# Altium schematic symbol library ADS4229.SchLib: 1 symbol
Pins are listed as number, name and electrical type; pins without a type are passive.

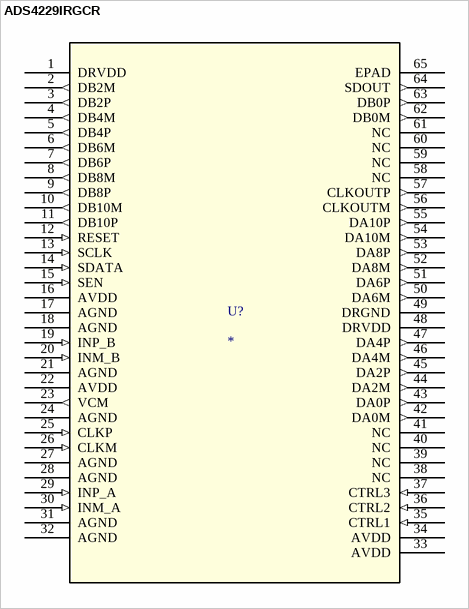
[diagram p0: symbol ADS4229IRGCR]

## ADS4229IRGCR
designator U?
12-Bit 250MSPS Dual Low Power ADC; Manufacturer: Texas Instruments; GENERIC_PART_NUMBER: ADS4229; INDUSTRY_STD_PKG_TYPE: VQFN; FAMILY_NAME: HIGH SPEED ADC (>10MSPS); PIN_COUNT: 64; PACKAGE_DESIGNATOR: RGC; Datasheet_URL: http://www.ti.com/lit/gpn/ADS4229; Copyright: Copyright (C) 2018 Accelerated Designs. All rights reserved; RefDes: RefDes; Type: DEV; ComponentLink1Description: Product Page; ComponentLink1URL: https://www.ti.com/product/ADS4229
footprint RGC64_7P4X7P4
pins: 1 DRVDD (power), 2 DB2M (out), 3 DB2P (out), 4 DB4M (out), 5 DB4P (out), 6 DB6M (out), 7 DB6P (out), 8 DB8M (out), 9 DB8P (out), 10 DB10M (out), 11 DB10P (out), 12 RESET (in), 13 SCLK (in), 14 SDATA (in), 15 SEN (in), 16 AVDD (power), 17 AGND (power), 18 AGND (power), 19 INP_B (in), 20 INM_B (in), 21 AGND (power), 22 AVDD (power), 23 VCM (out), 24 AGND (power), 25 CLKP (in), 26 CLKM (in), 27 AGND (power), 28 AGND (power), 29 INP_A (in), 30 INM_A (in), 31 AGND (power), 32 AGND (power), 33 AVDD (power), 34 AVDD (power), 35 CTRL1 (in), 36 CTRL2 (in), 37 CTRL3 (in), 38 NC, 39 NC, 40 NC, 41 NC, 42 DA0M (out), 43 DA0P (out), 44 DA2M (out), 45 DA2P (out), 46 DA4M (out), 47 DA4P (out), 48 DRVDD (power), 49 DRGND (power), 50 DA6M (out), 51 DA6P (out), 52 DA8M (out), 53 DA8P (out), 54 DA10M (out), 55 DA10P (out), 56 CLKOUTM (out), 57 CLKOUTP (out), 58 NC, 59 NC, 60 NC, 61 NC, 62 DB0M (out), 63 DB0P (out), 64 SDOUT (out), 65 EPAD (power)